# EAGLE library part LTC3542 (library PowerProducts)
LT-Spice library generated with : ltspice.ulp from: D:/Program Files (x86)/LTC/LTspiceIV/lib/sym/PowerProducts/LTC3543*.asy at 07.10.2012 18:17:14
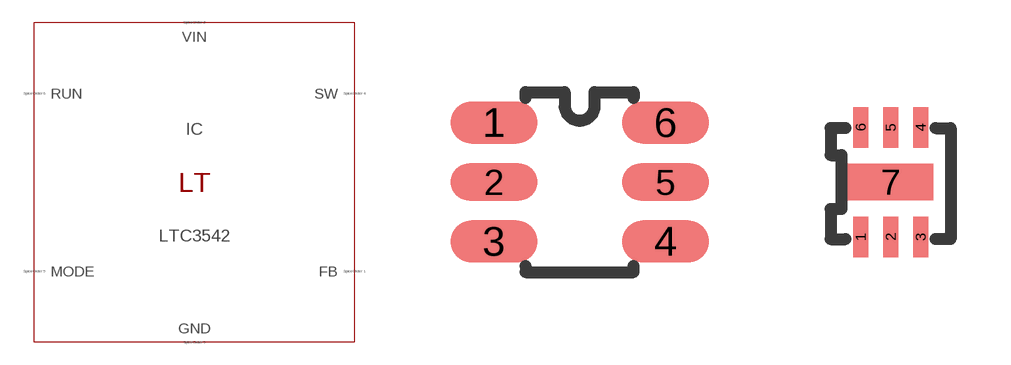
[diagram p235: symbol with the pads of SOT6(S6); footprints SOT6(S6), DFN6(DC)]

Designator prefix IC

## LTC3542S6 (SPICEMODEL: LTC3542.sub; SPICEPREFIX: X; VALUE2: LTC3542)  [SOT6(S6)]
1  VIN  pas
2  GND  pas
3  FB  pas
4  RUN  pas
5  MODE  pas
6  SW  pas

## LTC3542 (SPICEMODEL: LTC3542.sub; SPICEPREFIX: X; VALUE2: LTC3542)  [DFN6(DC)]
1  FB  pas
2  VIN  pas
3  GND  pas
4  SW  pas
5  MODE  pas
6  RUN  pas
7  GND  pas

## Footprint SOT6(S6) (pad centres in mm)
Package generated from: SOT6(S6).asc (!PADS-POWERPCB-V9.3-BASIC! DESIGN DATABASE ASCII FILE 1.0) with :import-pads-powerpcb-v5.ulp Version 1.0.1 at 04.10.2012 14:11:36
smd 2.175 x 1.05: 1 -2.145,1.485; 3 -2.145,-1.485; 4 2.145,-1.485; 6 2.145,1.485
smd 2.175 x 0.93: 2 -2.145,0; 5 2.145,0

## Footprint DFN6(DC) (pad centres in mm)
Package generated from: DFN6(DC).asc (!PADS-POWERPCB-V5.0-BASIC! DESIGN DATABASE ASCII FILE 1.0) with :import-pads-powerpcb-v5.ulp Version 1.0.1 at 04.10.2012 14:11:17
smd 0.375 x 1.012: 1 -0.75,-1.369; 2 0,-1.369; 3 0.75,-1.369; 4 0.75,1.369; 5 0,1.369; 6 -0.75,1.369
smd 2.13 x 0.915: 7 0,0